# Altium footprint library Phoenix_1985205.PcbLib: 1 footprints
Each footprint in its own frame and in the unit in brackets; x right, y up, seen from the top. Pads: shape width x height; smd on the part's side, far side on the other; paste and mask are expansions set on the pad; w line width, h text height; cw(c..) or ccw(c..) is an arc to the next point about the centre after c.
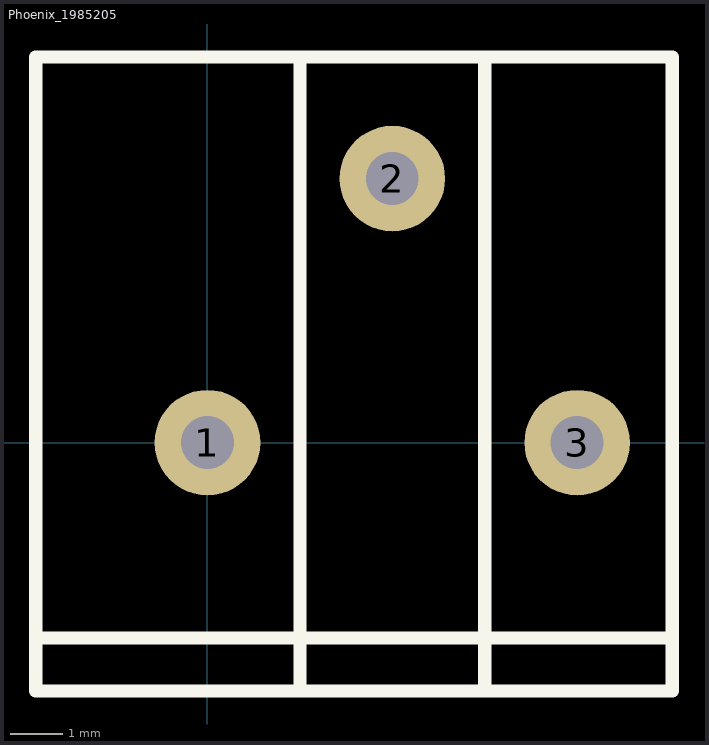
[diagram p0: the footprint, top view; thin cyan lines are the x and y axes]

## Phoenix_1985205 [mm]
pads (3):
  round 2 hole 1: 1(0,0) 2(3.5,5) 3(7,0)
Top Overlay:
  lines w0.25: -3.25,-3.7 8.8,-3.7 ; 1.75,-4.7 1.75,7.3 ; 5.25,-4.7 5.25,7.3 ; -3.25,-4.7 -3.25,7.3 8.8,7.3 8.8,-4.7 -3.25,-4.7
3D body "Phoenix_1985205_05_PTSA.stp": height 13.1, standoff -3.5, extent -3.23,-4.7 8.77,7.3